# EAGLE library part AS5145 (library makesmith)
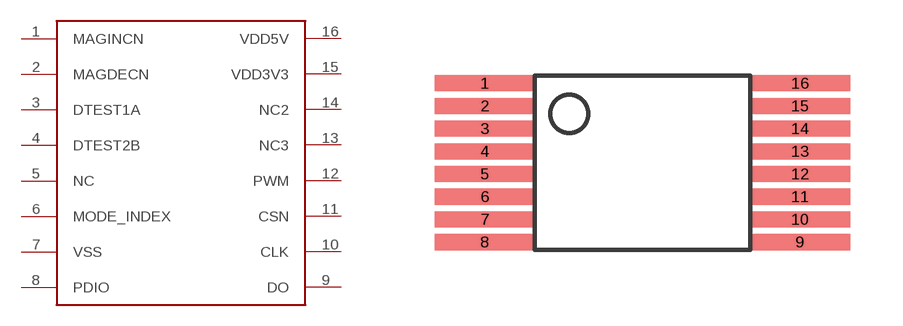
[diagram p0: symbol with the pads of SSOP16; footprint SSOP16]

Designator prefix -

## AS5145  [SSOP16]
1  MAGINCN
2  MAGDECN
3  DTEST1A
4  DTEST2B
5  NC
6  MODE_INDEX
7  VSS
8  PDIO
9  DO
10  CLK
11  CSN
12  PWM
13  NC3
14  NC2
15  VDD3V3
16  VDD5V

## Footprint SSOP16 (pad centres in mm)
smd 2.86 x 0.46: 1 -4.51,2.275; 2 -4.51,1.625; 3 -4.51,0.975; 4 -4.51,0.325; 5 -4.51,-0.325; 6 -4.51,-0.975; 7 -4.51,-1.625; 8 -4.51,-2.275; 9 4.51,-2.275; 10 4.51,-1.625; 11 4.51,-0.975; 12 4.51,-0.325; 13 4.51,0.325; 14 4.51,0.975; 15 4.51,1.625; 16 4.51,2.275